# EAGLE library part 282843-6 (library con-tyco)
TERMINAL BLOCK Buchanan, Euro Style
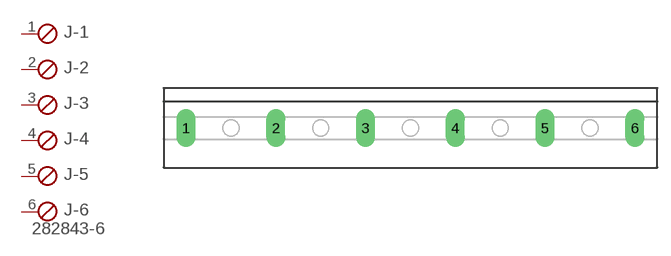
[diagram p0: symbol with the pads of 282843-6; footprint 282843-6]

Designator prefix J; gates -1=SKB -2=SKB -3=SKB -4=SKB -5=SKB -6=SKBV

## 282843-6  [282843-6]
1  -1:1  pas
2  -2:1  pas
3  -3:1  pas
4  -4:1  pas
5  -5:1  pas
6  -6:1  pas

## Footprint 282843-6 (pad centres in mm)
TERMINAL BLOCK Pitch 0.400" (10.16mm)
drill 1.422 long: 1 -25.4,0; 2 -15.24,0; 3 -5.08,0; 4 5.08,0; 5 15.24,0; 6 25.4,0